# Altium footprint library potentiometers.PcbLib: 4 footprints
Each footprint in its own frame and in the unit in brackets; x right, y up, seen from the top. Pads: shape width x height; smd on the part's side, far side on the other; paste and mask are expansions set on the pad; w line width, h text height; cw(c..) or ccw(c..) is an arc to the next point about the centre after c.
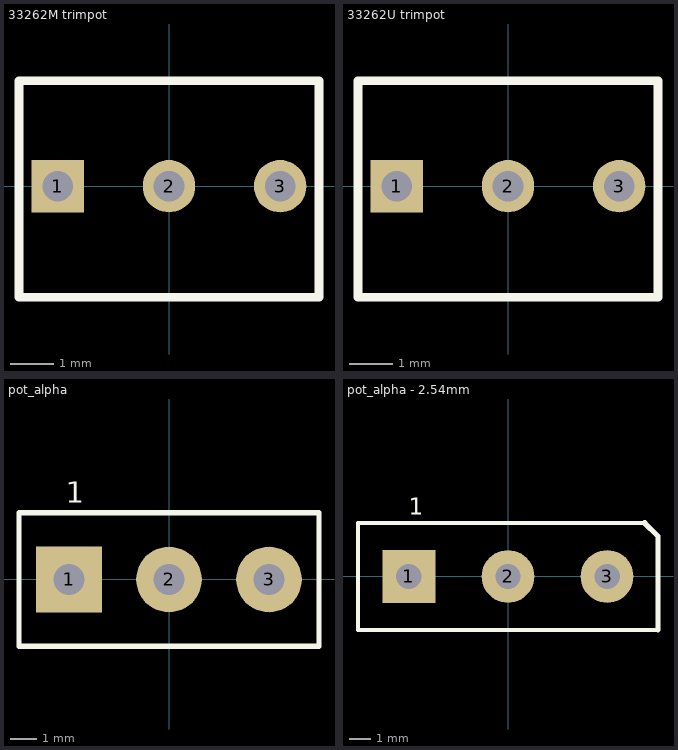
[diagram p0: the footprints below, top view; thin cyan lines are the x and y axes]

## 33262M trimpot [mm] "Thru-Hole; 3 Leads"
pads (3):
  rect 1.2x1.2 hole 0.7: 1(-2.54,0)
  round 1.2 hole 0.7: 2(0,0) 3(2.54,0)
Top Overlay:
  lines w0.2: -3.429,-2.54 3.429,-2.54 3.429,-1.651 3.429,2.413 -3.429,2.413 -3.429,-2.54
3D body: height 8.3, standoff -4.2, extent -3.3,-2.45 3.3,2.25

## 33262U trimpot [mm] "Thru-Hole; 3 Leads"
height 10
pads (3):
  rect 1.2x1.2 hole 0.7: 1(-2.54,0)
  round 1.2 hole 0.7: 2(0,0) 3(2.54,0)
Top Overlay:
  lines w0.2: -3.429,-2.54 3.429,-2.54 3.429,-1.651 3.429,2.413 -3.429,2.413 -3.429,-2.54
3D body: height 4.75, standoff -5.42, extent -3.3,-3.754 3.3,3.3

## pot_alpha [mm] "Thru-Hole; 3 Leads"
pads (3):
  rect 2.5x2.5 hole 1.2: 1(-3.81,0)
  round 2.5 hole 1.2: 2(0,0) 3(3.81,0)
Top Overlay:
  lines w0.2: -5.715,-2.54 -5.715,2.54 5.715,2.54 5.715,0 5.715,-2.54 -5.715,-2.54
  text "1" at -3.937,2.921 h0.8

## pot_alpha - 2.54mm [mm] "Thru-Hole; 3 Leads, 2.54mm min spacing"
pads (3):
  rect 2.5x2.5 hole 1.2: 1(-4.699,0)
  round 2.5 hole 1.2: 2(0,0) 3(4.699,0)
Top Overlay:
  lines w0.2: 6.477,2.54 -7.112,2.54 -7.112,-2.54 7.112,-2.54
  lines w0.254: 6.477,2.54 7.112,1.905 7.112,-2.54
  text "1" at -4.699,2.921 h0.8